# Altium footprint library Inductor.PcbLib: 39 footprints (part 2 of 3)
Each footprint in its own frame and in the unit in brackets; x right, y up, seen from the top. Pads: shape width x height; smd on the part's side, far side on the other; paste and mask are expansions set on the pad; w line width, h text height; cw(c..) or ccw(c..) is an arc to the next point about the centre after c.
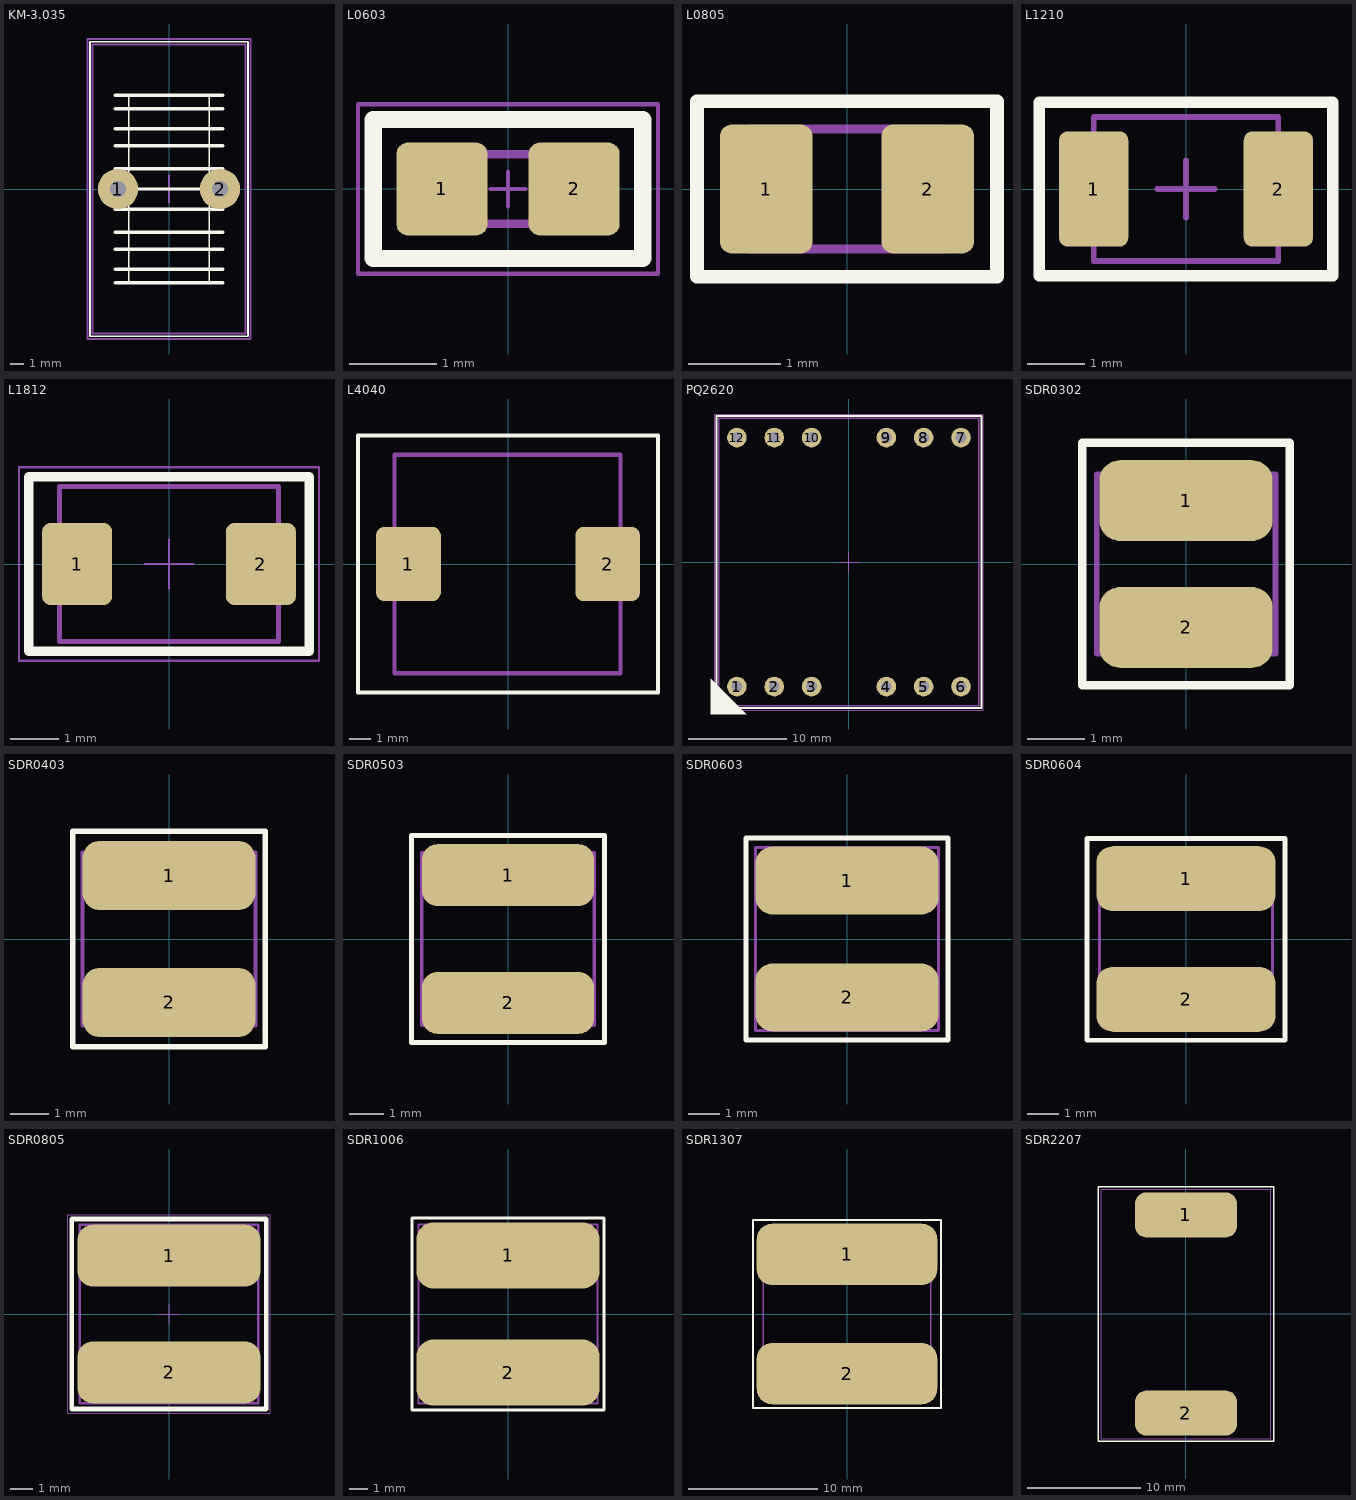
[diagram p1: the footprints below, top view; thin cyan lines are the x and y axes]

## KM-3.035 [mm]
pads (2):
  round 3 hole 1.2: 1(-3.81,0) 2(3.81,0)
Top Overlay:
  lines w0.127: -5.9,-11 -5.9,11 5.9,11 5.9,-11 -5.9,-11 ; -3,-7 3,-7 3,0 3,7 -3,7 -3,0 -3,-7
  lines w0.254: -4,-7 4,-7 ; -4,-6 4,-6 ; -4,-4.5 4,-4.5 ; -4,-3.23 4,-3.23 ; -4,-1.5 4,-1.5 ; -4,1.5 4,1.5 ; -4,3.23 4,3.23 ; -4,4.5 4,4.5 ; -4,6 4,6 ; -4,7 4,7 ; -3,0 3,0
Mechanical 7:
  lines w0.15: -5.71,-10.35 -5.71,-10.795 ; -5.71,-10.795 5.715,-10.795 5.715,10.795 -5.71,10.795 -5.71,-10.795
Mechanical 9:
  text ".Designator" at -4.5,12 h3
Mechanical 10:
  text ".Comment" at -3.3,-12.7 h2
Mechanical 15:
  lines w0.15: -1,0 1,0 ; 0,-1 0,1 ; -6.1,-11.2 6.1,-11.2 6.1,11.2 -6.1,11.2 -6.1,-11.2
3D body: height 24.13, standoff 0, extent -5.7,-10.8 5.715,10.795

## L0603 [mm]
height 0.8
pads (2):
  rrect25% 1.05x1.07 smd paste-5: 1(-0.76,0) 2(0.76,0)
Top Overlay:
  lines w0.2: -1.55,-0.796 -1.55,0.796 ; -1.538,-0.8 1.538,-0.8 ; -1.538,0.8 1.538,0.8 ; 1.55,-0.796 1.55,0.796
Top Paste:
  region: 0.235,-0.405 0.445,0 0.235,0.405 0.235,0.431 0.255,0.479 0.291,0.515 0.339,0.535 0.365,0.535 1.155,0.535 1.181,0.535 1.229,0.515 1.265,0.479 1.285,0.431 1.285,0.405 1.285,-0.405 1.285,-0.431 1.265,-0.479 1.229,-0.515 1.181,-0.535 1.155,-0.535 0.365,-0.535 0.339,-0.535 0.291,-0.515 0.255,-0.479 0.235,-0.431
  region: -0.235,-0.405 -0.445,0 -0.235,0.405 -0.235,0.431 -0.255,0.479 -0.291,0.515 -0.339,0.535 -0.365,0.535 -1.155,0.535 -1.181,0.535 -1.229,0.515 -1.265,0.479 -1.285,0.431 -1.285,0.405 -1.285,-0.405 -1.285,-0.431 -1.265,-0.479 -1.229,-0.515 -1.181,-0.535 -1.155,-0.535 -0.365,-0.535 -0.339,-0.535 -0.291,-0.515 -0.255,-0.479 -0.235,-0.431
Mechanical 13:
  lines w0.1: -0.8,-0.4 -0.8,0.4 0.8,0.4 0.8,-0.4 -0.8,-0.4
Mechanical 15:
  lines w0.05: -1.726,0.974 -1.726,-0.975 1.714,-0.975 ; -1.726,0.975 1.725,0.975 ; -0.2,0 0.2,0 ; 0,-0.2 0,0.2 ; 1.726,-0.975 1.726,0.974
3D body "User Library-FB_1608.STEP": height 0.8, standoff 0, extent -0.8,-0.4 0.8,0.4

## L0805 [mm]
height 1.4
pads (2):
  rrect25% 1x1.4 smd: 1(-0.875,0) 2(0.875,0)
Top Overlay:
  lines w0.15: -1.625,-0.95 1.625,-0.95 1.625,0.95 -1.625,0.95 -1.625,-0.95
Mechanical 7:
  lines w0.1: -1.05,-0.65 1.05,-0.65 1.05,0.65 -1.05,0.65 -1.05,-0.65
Mechanical 9:
  text ".Designator" at -3.6,1.9 h3
Mechanical 10:
  text ".Comment" at -2.1,-2.5 h2
3D body "User Library-ind_0805.step": height 0.95, standoff 0, extent -1,-0.6 1,0.6

## L1210 [mm]
height 0.8
pads (2):
  rrect25% 1.2x2 smd paste-5: 1(-1.6,0) 2(1.6,0)
Top Overlay:
  lines w0.2: -2.54,-1.5 2.54,-1.5 2.54,1.5 -2.54,1.5 -2.54,-1.5
Top Paste:
  region: -1,-0.85 -1.225,0.025 -1,0.875 -1,0.9 -1.019,0.946 -1.055,0.982 -1.101,1.001 -1.126,1.001 -2.069,1.001 -2.094,1.002 -2.143,0.984 -2.18,0.949 -2.2,0.901 -2.2,0.875 -2.2,-0.85 -2.2,-0.88 -2.177,-0.935 -2.135,-0.977 -2.08,-1 -2.05,-1 -1.15,-1 -1.12,-1 -1.065,-0.977 -1.023,-0.935 -1,-0.88
  region: 1,0.85 1.225,-0.025 1,-0.875 1,-0.9 1.019,-0.946 1.055,-0.982 1.101,-1.001 1.126,-1.001 2.069,-1.001 2.094,-1.002 2.143,-0.984 2.18,-0.949 2.2,-0.901 2.2,-0.875 2.2,0.85 2.2,0.88 2.177,0.935 2.135,0.977 2.08,1 2.05,1 1.15,1 1.12,1 1.065,0.977 1.023,0.935 1,0.88
Mechanical 9:
  text ".Designator" at -3.7,2.3 h3
Mechanical 10:
  text ".Comment" at -2.6,-3.1 h2
Mechanical 11:
  lines w0.1: -1.597,-1.25 1.6,-1.25 1.6,1.25 -1.597,1.25 -1.597,-1.25
Mechanical 15:
  lines w0.05: -2.54,-1.5 -2.54,1.5 2.54,1.5 2.54,-1.5 -2.54,-1.5
  lines w0.1: -0.5,0 0.5,0 ; 0,-0.5 0,0.5
3D body "User Library-3225.STEP": height 1.9, standoff 0, extent -1.6,-1.25 1.6,1.25

## L1812 [mm]
height 0.8
pads (2):
  rrect25% 1.45x1.7 smd: 1(-1.9,0) 2(1.9,0)
Top Overlay:
  lines w0.2: -2.9,-1.8 2.9,-1.8 2.9,1.8 -2.9,1.8 -2.9,-1.8
Mechanical 9:
  text ".Designator" at -3.8,2.7 h3
Mechanical 10:
  text ".Comment" at -2.9,-3.4 h2
Mechanical 13:
  lines w0.1: -2.264,-1.6 2.263,-1.6 2.263,1.6 -2.264,1.6 -2.264,-1.6
Mechanical 15:
  lines w0.05: -0.5,0 0.5,0 ; 0,-0.5 0,0.5 ; -3.1,-2 -3.1,2 3.1,2 3.1,-2 -3.1,-2
3D body "User Library-L_SMD.step": height 3.2, standoff 0, extent -2.25,-1.6 2.25,1.6

## L4040 [mm]
height 4
pads (2):
  rrect25% 3.02x3.46 smd paste-5: 1(-4.645,0) 2(4.65,0)
Top Overlay:
  lines w0.2: -7,-6 -7,6 7,6 7,-6 -7,-6
Mechanical 7:
  lines w0.2: -5.3,-5.1 -5.3,5.1 5.25,5.1 5.25,-5.1 -5.3,-5.1
Mechanical 9:
  text ".Designator" at -3.8,7.2 h3
Mechanical 10:
  text ".Comment" at -2.2,-7.7 h2
3D body "70411277.stp": height 3.78, standoff -0.1, extent -5.352,-5.108 5.27,5.108

## PQ2620 [mm]
pads (12):
  round 2 hole 1.1: 1(-11.43,-12.7) 2(-7.62,-12.7) 3(-3.81,-12.7) 4(3.81,-12.7) 5(7.62,-12.7) 6(11.43,-12.7) 7(11.43,12.7) 8(7.62,12.7) 9(3.81,12.7) 10(-3.81,12.7) 11(-7.62,12.7) 12(-11.43,12.7)
Top Overlay:
  region: -14.1,-15.5 -14.1,-11.9 -10.5,-15.5
  lines w0.2: -13.5,-14.9 13.5,-14.9 13.5,14.9 -13.5,14.9 -13.5,-14.9
Mechanical 7:
  lines w0.15: -13.269,-14.635 -13.252,-14.652 13.25,-14.652 13.248,-14.65 13.248,14.654 13.237,14.665 -13.269,14.665 -13.269,-14.635
Mechanical 15:
  lines w0.1: -1,0 1,0 ; 0,-1 0,1 ; -13.7,-15.1 13.7,-15.1 13.7,15.1 -13.7,15.1 -13.7,-15.1
3D body "User Library-PQ 26_20.step": height 21.93, standoff -7.1, extent -13.25,-14.65 13.25,14.65

## SDR0302 [mm] "SMD Power Inductors"
pads (2):
  rrect50% 3x1.4 smd: 1(0,1.1) 2(0,-1.1)
Top Overlay:
  lines w0.15: -1.8,-2.1 -1.8,2.1 1.8,2.1 1.8,-2.1 -1.8,-2.1
Mechanical 7:
  lines w0.1: -1.548,-1.55 1.55,-1.55 1.55,1.55 -1.548,1.55 -1.548,-1.55
3D body "SDR0302.stp": height 2.51, standoff 0, extent -1.548,-1.55 1.55,1.55

## SDR0403 [mm] "SMD Power Inductors"
pads (2):
  rrect50% 4.5x1.8 smd: 1(0,1.65) 2(0,-1.65)
Top Overlay:
  lines w0.15: -2.5,-2.8 2.5,-2.8 2.5,2.8 -2.5,2.8 -2.5,-2.8
Mechanical 7:
  lines w0.1: -2.25,-2.25 -2.25,2.25 2.25,2.25 2.25,-2.25 -2.25,-2.25
3D body "SDR0403.stp": height 3.21, standoff 0, extent -2.25,-2.25 2.25,2.25

## SDR0503 [mm] "SMD Power Inductors"
pads (2):
  rrect50% 5x1.8 smd: 1(0,1.85) 2(0,-1.85)
Top Overlay:
  lines w0.15: -2.8,-3 2.8,-3 2.8,3 -2.8,3 -2.8,-3
Mechanical 7:
  lines w0.1: -2.5,2.5 2.5,2.5 2.5,-2.5 -2.5,-2.5 -2.5,2.5
3D body "SDR0503.stp": height 3.01, standoff 0, extent -2.5,-2.5 2.5,2.5

## SDR0603 [mm] "SMD Power Inductors"
pads (2):
  rrect50% 5.8x2.15 smd: 1(0,1.85) 2(0,-1.85)
Top Overlay:
  lines w0.15: -3.2,-3.2 -3.2,3.2 3.2,3.2 3.2,-3.2 -3.2,-3.2
Mechanical 7:
  lines w0.1: -2.9,-2.9 2.9,-2.9 2.9,2.9 -2.9,2.9 -2.9,-2.9
3D body "SDR0603.stp": height 3.01, standoff 0, extent -2.9,-2.9 2.9,2.9

## SDR0604 [mm] "SMD Power Inductors"
pads (2):
  rrect50% 5.8x2.1 smd: 1(0,1.95) 2(0,-1.95)
Top Overlay:
  lines w0.15: -3.2,-3.275 -3.2,3.25 3.2,3.25 3.2,-3.05 3.2,-3.275 -3.2,-3.275
Mechanical 7:
  lines w0.1: -2.8,-2.25 2.8,-2.25 2.8,2.45 -2.8,2.45 -2.8,-2.25
3D body "User Library-SDR0604.step": height 4.55, standoff 0, extent -2.8,-2.754 2.8,2.754

## SDR0805 [mm] "SMD Power Inductors 0.307\" Dia (7.80mm)"
height 5.3
pads (2):
  rrect50% 8x2.7 smd: 1(0,2.55) 2(0,-2.55)
Top Overlay:
  lines w0.2: -4.25,-4.15 4.25,-4.15 4.25,4.15 -4.25,4.15 -4.25,-4.15
Mechanical 13:
  lines w0.1: -3.9,-3.9 -3.9,3.9 3.9,3.9 3.9,-3.9 -3.9,-3.9
Mechanical 15:
  lines w0.05: -0.437,0 0.437,0 ; 0,-0.437 0,0.437 ; -4.425,-4.325 -4.425,4.325 4.425,4.325 4.425,-4.325 -4.425,-4.325
3D body "SDR0805.stp": height 5.31, standoff 0, extent -3.9,-3.9 3.9,3.9

## SDR1006 [mm]
pads (2):
  rrect50% 10x3.6 smd: 1(0,3.2) 2(0,-3.2)
Top Overlay:
  lines w0.15: -5.25,-5.25 1.225,-5.25 5.25,-5.25 5.25,5.25 -5.25,5.25 -5.25,-5.25
Mechanical 7:
  lines w0.1: -4.9,-4.888 -4.9,4.888 4.9,4.888 4.9,-4.888 -4.9,-4.888
3D body "User Library-Bourns_SDR1006_SMD_WW_Inductor.step": height 5.83, standoff -0.13, extent -4.9,-4.888 4.9,4.888

## SDR1307 [mm] "SMD Power Inductors"
pads (2):
  rrect50% 14x4.75 smd: 1(0,4.625) 2(0,-4.625)
Top Overlay:
  lines w0.15: -7.3,-7.3 -7.3,7.3 7.3,7.3 7.3,-7.3 -7.3,-7.3
Mechanical 7:
  lines w0.1: -6.5,-6.5 6.5,-6.5 6.5,6.5 -6.5,6.5 -6.5,-6.5
3D body "SDR1307.stp": height 7.11, standoff 0, extent -6.5,-6.5 6.5,6.5

## SDR2207 [mm] "SMD Power Inductors"
pads (2):
  rrect50% 9x4 smd: 1(0,8.75) 2(0,-8.75)
Top Overlay:
  lines w0.15: -7.75,-11.25 -7.75,11.25 7.75,11.25 7.75,-11.25 -7.75,-11.25
Mechanical 7:
  lines w0.1: -7.5,-11 -7.5,11 7.5,11 7.5,-11 -7.5,-11
3D body "User Library-SDR2207-1.STEP": height 6, standoff 0, extent -7.5,-11 7.5,11